# Altium schematic symbol library SCH - MCU - STM32 - ST MICROELECTRONICS STM32F765V(G-I)HX TFBGA100.SchLib: 1 symbol
Pins are listed as number, name and electrical type; pins without a type are passive.

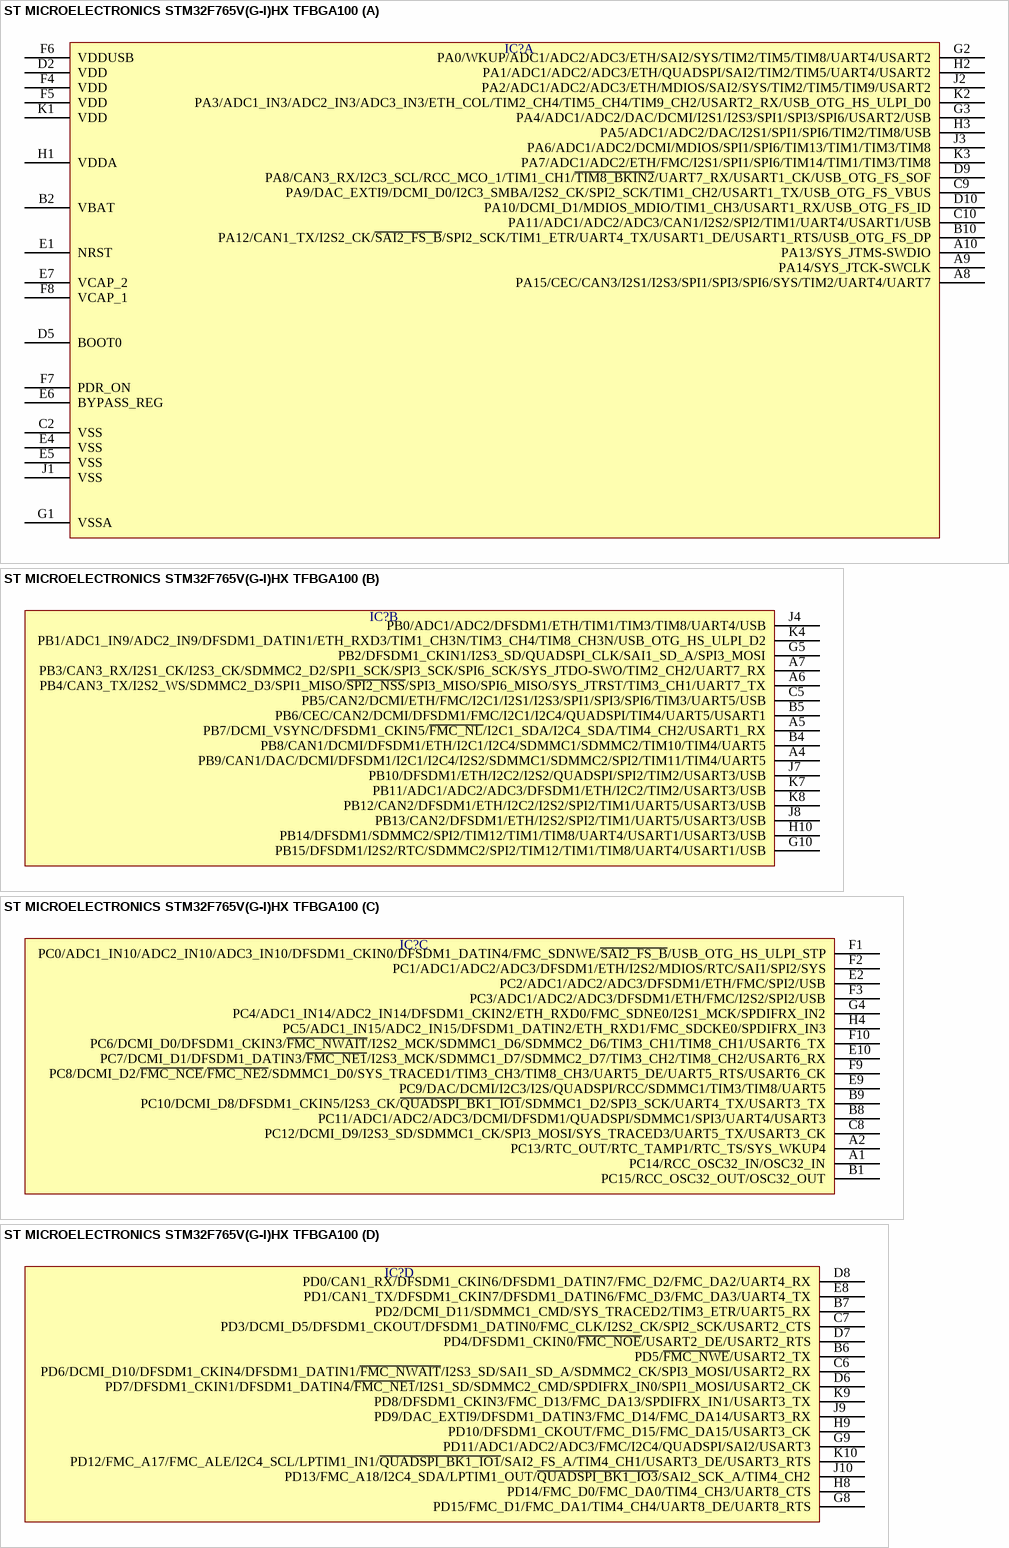
[diagram p0: symbol ST MICROELECTRONICS STM32F765V(G-I)HX TFBGA100]

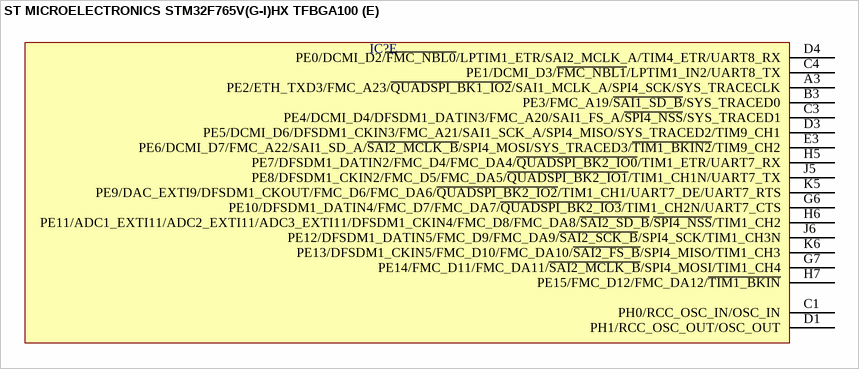
[diagram p1: symbol ST MICROELECTRONICS STM32F765V(G-I)HX TFBGA100]

## ST MICROELECTRONICS STM32F765V(G-I)HX TFBGA100
designator IC?  (value not drawn)
part A pins: A8 PA15/CEC/CAN3/I2S1/I2S3/SPI1/SPI3/SPI6/SYS/TIM2/UART4/UART7, A9 PA14/SYS_JTCK-SWCLK, A10 PA13/SYS_JTMS-SWDIO, B2 VBAT, B10 PA12/CAN1_TX/I2S2_CK/~{SAI2_FS_B}/SPI2_SCK/TIM1_ETR/UART4_TX/USART1_DE/USART1_RTS/USB_OTG_FS_DP, C2 VSS, C9 PA9/DAC_EXTI9/DCMI_D0/I2C3_SMBA/I2S2_CK/SPI2_SCK/TIM1_CH2/USART1_TX/USB_OTG_FS_VBUS, C10 PA11/ADC1/ADC2/ADC3/CAN1/I2S2/SPI2/TIM1/UART4/USART1/USB, D2 VDD, D5 BOOT0, D9 PA8/CAN3_RX/I2C3_SCL/RCC_MCO_1/TIM1_CH1/~{TIM8_BKIN2}/UART7_RX/USART1_CK/USB_OTG_FS_SOF, D10 PA10/DCMI_D1/MDIOS_MDIO/TIM1_CH3/USART1_RX/USB_OTG_FS_ID, E1 NRST, E4 VSS, E5 VSS, E6 BYPASS_REG, E7 VCAP_2, F4 VDD, F5 VDD, F6 VDDUSB, F7 PDR_ON, F8 VCAP_1, G1 VSSA, G2 PA0/WKUP/ADC1/ADC2/ADC3/ETH/SAI2/SYS/TIM2/TIM5/TIM8/UART4/USART2, G3 PA4/ADC1/ADC2/DAC/DCMI/I2S1/I2S3/SPI1/SPI3/SPI6/USART2/USB, H1 VDDA, H2 PA1/ADC1/ADC2/ADC3/ETH/QUADSPI/SAI2/TIM2/TIM5/UART4/USART2, H3 PA5/ADC1/ADC2/DAC/I2S1/SPI1/SPI6/TIM2/TIM8/USB, J1 VSS, J2 PA2/ADC1/ADC2/ADC3/ETH/MDIOS/SAI2/SYS/TIM2/TIM5/TIM9/USART2, J3 PA6/ADC1/ADC2/DCMI/MDIOS/SPI1/SPI6/TIM13/TIM1/TIM3/TIM8, K1 VDD, K2 PA3/ADC1_IN3/ADC2_IN3/ADC3_IN3/ETH_COL/TIM2_CH4/TIM5_CH4/TIM9_CH2/USART2_RX/USB_OTG_HS_ULPI_D0, K3 PA7/ADC1/ADC2/ETH/FMC/I2S1/SPI1/SPI6/TIM14/TIM1/TIM3/TIM8
part B pins: A4 PB9/CAN1/DAC/DCMI/DFSDM1/I2C1/I2C4/I2S2/SDMMC1/SDMMC2/SPI2/TIM11/TIM4/UART5, A5 PB7/DCMI_VSYNC/DFSDM1_CKIN5/~{FMC_NL}/I2C1_SDA/I2C4_SDA/TIM4_CH2/USART1_RX, A6 PB4/CAN3_TX/I2S2_WS/SDMMC2_D3/SPI1_MISO/~{SPI2_NSS}/SPI3_MISO/SPI6_MISO/SYS_JTRST/TIM3_CH1/UART7_TX, A7 PB3/CAN3_RX/I2S1_CK/I2S3_CK/SDMMC2_D2/SPI1_SCK/SPI3_SCK/SPI6_SCK/SYS_JTDO-SWO/TIM2_CH2/UART7_RX, B4 PB8/CAN1/DCMI/DFSDM1/ETH/I2C1/I2C4/SDMMC1/SDMMC2/TIM10/TIM4/UART5, B5 PB6/CEC/CAN2/DCMI/DFSDM1/FMC/I2C1/I2C4/QUADSPI/TIM4/UART5/USART1, C5 PB5/CAN2/DCMI/ETH/FMC/I2C1/I2S1/I2S3/SPI1/SPI3/SPI6/TIM3/UART5/USB, G5 PB2/DFSDM1_CKIN1/I2S3_SD/QUADSPI_CLK/SAI1_SD_A/SPI3_MOSI, G10 PB15/DFSDM1/I2S2/RTC/SDMMC2/SPI2/TIM12/TIM1/TIM8/UART4/USART1/USB, H10 PB14/DFSDM1/SDMMC2/SPI2/TIM12/TIM1/TIM8/UART4/USART1/USART3/USB, J4 PB0/ADC1/ADC2/DFSDM1/ETH/TIM1/TIM3/TIM8/UART4/USB, J7 PB10/DFSDM1/ETH/I2C2/I2S2/QUADSPI/SPI2/TIM2/USART3/USB, J8 PB13/CAN2/DFSDM1/ETH/I2S2/SPI2/TIM1/UART5/USART3/USB, K4 PB1/ADC1_IN9/ADC2_IN9/DFSDM1_DATIN1/ETH_RXD3/TIM1_CH3N/TIM3_CH4/TIM8_CH3N/USB_OTG_HS_ULPI_D2, K7 PB11/ADC1/ADC2/ADC3/DFSDM1/ETH/I2C2/TIM2/USART3/USB, K8 PB12/CAN2/DFSDM1/ETH/I2C2/I2S2/SPI2/TIM1/UART5/USART3/USB
part C pins: A1 PC14/RCC_OSC32_IN/OSC32_IN, A2 PC13/RTC_OUT/RTC_TAMP1/RTC_TS/SYS_WKUP4, B1 PC15/RCC_OSC32_OUT/OSC32_OUT, B8 PC11/ADC1/ADC2/ADC3/DCMI/DFSDM1/QUADSPI/SDMMC1/SPI3/UART4/USART3, B9 PC10/DCMI_D8/DFSDM1_CKIN5/I2S3_CK/~{QUADSPI_BK1_IO1}/SDMMC1_D2/SPI3_SCK/UART4_TX/USART3_TX, C8 PC12/DCMI_D9/I2S3_SD/SDMMC1_CK/SPI3_MOSI/SYS_TRACED3/UART5_TX/USART3_CK, E2 PC2/ADC1/ADC2/ADC3/DFSDM1/ETH/FMC/SPI2/USB, E9 PC9/DAC/DCMI/I2C3/I2S/QUADSPI/RCC/SDMMC1/TIM3/TIM8/UART5, E10 PC7/DCMI_D1/DFSDM1_DATIN3/~{FMC_NE1}/I2S3_MCK/SDMMC1_D7/SDMMC2_D7/TIM3_CH2/TIM8_CH2/USART6_RX, F1 PC0/ADC1_IN10/ADC2_IN10/ADC3_IN10/DFSDM1_CKIN0/DFSDM1_DATIN4/FMC_SDNWE/~{SAI2_FS_B}/USB_OTG_HS_ULPI_STP, F2 PC1/ADC1/ADC2/ADC3/DFSDM1/ETH/I2S2/MDIOS/RTC/SAI1/SPI2/SYS, F3 PC3/ADC1/ADC2/ADC3/DFSDM1/ETH/FMC/I2S2/SPI2/USB, F9 PC8/DCMI_D2/~{FMC_NCE}/~{FMC_NE2}/SDMMC1_D0/SYS_TRACED1/TIM3_CH3/TIM8_CH3/UART5_DE/UART5_RTS/USART6_CK, F10 PC6/DCMI_D0/DFSDM1_CKIN3/~{FMC_NWAIT}/I2S2_MCK/SDMMC1_D6/SDMMC2_D6/TIM3_CH1/TIM8_CH1/USART6_TX, G4 PC4/ADC1_IN14/ADC2_IN14/DFSDM1_CKIN2/ETH_RXD0/FMC_SDNE0/I2S1_MCK/SPDIFRX_IN2, H4 PC5/ADC1_IN15/ADC2_IN15/DFSDM1_DATIN2/ETH_RXD1/FMC_SDCKE0/SPDIFRX_IN3
part D pins: B6 PD5/~{FMC_NWE}/USART2_TX, B7 PD2/DCMI_D11/SDMMC1_CMD/SYS_TRACED2/TIM3_ETR/UART5_RX, C6 PD6/DCMI_D10/DFSDM1_CKIN4/DFSDM1_DATIN1/~{FMC_NWAIT}/I2S3_SD/SAI1_SD_A/SDMMC2_CK/SPI3_MOSI/USART2_RX, C7 PD3/DCMI_D5/DFSDM1_CKOUT/DFSDM1_DATIN0/FMC_CLK/I2S2_CK/SPI2_SCK/USART2_CTS, D6 PD7/DFSDM1_CKIN1/DFSDM1_DATIN4/~{FMC_NE1}/I2S1_SD/SDMMC2_CMD/SPDIFRX_IN0/SPI1_MOSI/USART2_CK, D7 PD4/DFSDM1_CKIN0/~{FMC_NOE}/USART2_DE/USART2_RTS, D8 PD0/CAN1_RX/DFSDM1_CKIN6/DFSDM1_DATIN7/FMC_D2/FMC_DA2/UART4_RX, E8 PD1/CAN1_TX/DFSDM1_CKIN7/DFSDM1_DATIN6/FMC_D3/FMC_DA3/UART4_TX, G8 PD15/FMC_D1/FMC_DA1/TIM4_CH4/UART8_DE/UART8_RTS, G9 PD11/ADC1/ADC2/ADC3/FMC/I2C4/QUADSPI/SAI2/USART3, H8 PD14/FMC_D0/FMC_DA0/TIM4_CH3/UART8_CTS, H9 PD10/DFSDM1_CKOUT/FMC_D15/FMC_DA15/USART3_CK, J9 PD9/DAC_EXTI9/DFSDM1_DATIN3/FMC_D14/FMC_DA14/USART3_RX, J10 PD13/FMC_A18/I2C4_SDA/LPTIM1_OUT/~{QUADSPI_BK1_IO3}/SAI2_SCK_A/TIM4_CH2, K9 PD8/DFSDM1_CKIN3/FMC_D13/FMC_DA13/SPDIFRX_IN1/USART3_TX, K10 PD12/FMC_A17/FMC_ALE/I2C4_SCL/LPTIM1_IN1/~{QUADSPI_BK1_IO1}/SAI2_FS_A/TIM4_CH1/USART3_DE/USART3_RTS
part E pins: A3 PE2/ETH_TXD3/FMC_A23/~{QUADSPI_BK1_IO2}/SAI1_MCLK_A/SPI4_SCK/SYS_TRACECLK, B3 PE3/FMC_A19/~{SAI1_SD_B}/SYS_TRACED0, C1 PH0/RCC_OSC_IN/OSC_IN, C3 PE4/DCMI_D4/DFSDM1_DATIN3/FMC_A20/SAI1_FS_A/~{SPI4_NSS}/SYS_TRACED1, C4 PE1/DCMI_D3/~{FMC_NBL1}/LPTIM1_IN2/UART8_TX, D1 PH1/RCC_OSC_OUT/OSC_OUT, D3 PE5/DCMI_D6/DFSDM1_CKIN3/FMC_A21/SAI1_SCK_A/SPI4_MISO/SYS_TRACED2/TIM9_CH1, D4 PE0/DCMI_D2/~{FMC_NBL0}/LPTIM1_ETR/SAI2_MCLK_A/TIM4_ETR/UART8_RX, E3 PE6/DCMI_D7/FMC_A22/SAI1_SD_A/~{SAI2_MCLK_B}/SPI4_MOSI/SYS_TRACED3/~{TIM1_BKIN2}/TIM9_CH2, G6 PE10/DFSDM1_DATIN4/FMC_D7/FMC_DA7/~{QUADSPI_BK2_IO3}/TIM1_CH2N/UART7_CTS, G7 PE14/FMC_D11/FMC_DA11/~{SAI2_MCLK_B}/SPI4_MOSI/TIM1_CH4, H5 PE7/DFSDM1_DATIN2/FMC_D4/FMC_DA4/~{QUADSPI_BK2_IO0}/TIM1_ETR/UART7_RX, H6 PE11/ADC1_EXTI11/ADC2_EXTI11/ADC3_EXTI11/DFSDM1_CKIN4/FMC_D8/FMC_DA8/~{SAI2_SD_B}/~{SPI4_NSS}/TIM1_CH2, H7 PE15/FMC_D12/FMC_DA12/~{TIM1_BKIN}, J5 PE8/DFSDM1_CKIN2/FMC_D5/FMC_DA5/~{QUADSPI_BK2_IO1}/TIM1_CH1N/UART7_TX, J6 PE12/DFSDM1_DATIN5/FMC_D9/FMC_DA9/~{SAI2_SCK_B}/SPI4_SCK/TIM1_CH3N, K5 PE9/DAC_EXTI9/DFSDM1_CKOUT/FMC_D6/FMC_DA6/~{QUADSPI_BK2_IO2}/TIM1_CH1/UART7_DE/UART7_RTS, K6 PE13/DFSDM1_CKIN5/FMC_D10/FMC_DA10/~{SAI2_FS_B}/SPI4_MISO/TIM1_CH3